# Altium schematic symbol library kmilo17pet-LT_PMIC_LT.SchLib: 2252 symbols (part 108 of 124)
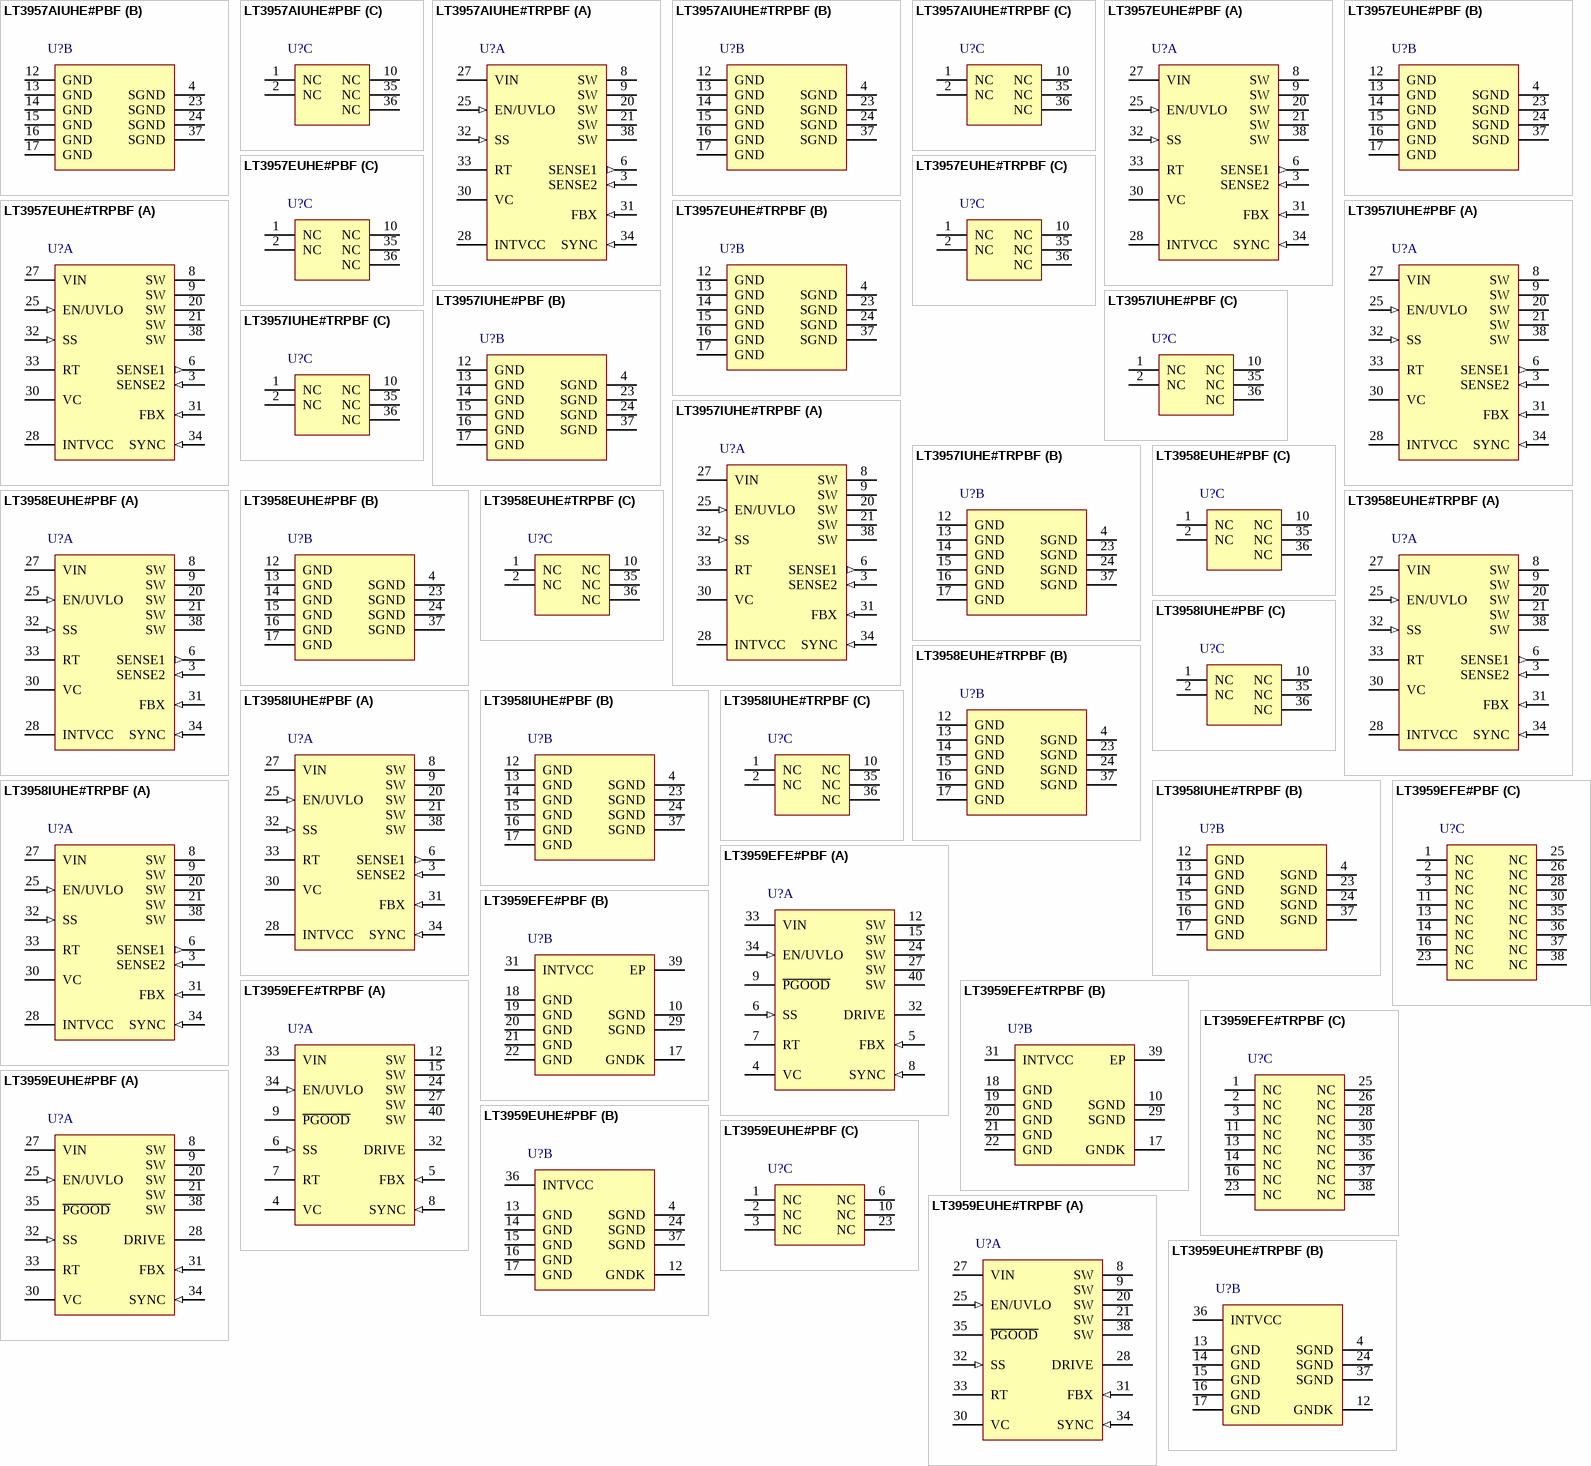
[diagram p178: symbols LT3957AIUHE#PBF to LT3959EUHE#TRPBF]

## LT3957IUHE#TRPBF
designator U?
Boost, Flyback, SEPIC and Inverting Converter with 5 A, 40 V Switch, 36-pin QFN (UHE-36-UHE28MA), -40 to 125 degC, Pb-Free, Tape and Reel; Manufacturer: Linear Technology; PartNumber: LT3957IUHE#TRPBF; Number of Outputs: 1; PackageReference: UHE-36; PackageDescription: 28-Pin Plastic QFN, Body 5 x 6 mm, Pitch 0.5 mm; Supplier 1: Digi-Key; Supplier Part Number 1: LT3957IUHE#TRPBF-ND; RoHS: TRUE
footprint LT-UHE-36-V-UHE28MA_V (QFN, 28-Leads, Body 6x5mm, Pitch 0.5mm)
part A pins: 3 SENSE2 (in) "The Current Sense Input for the Control Loop. Connect this pin to SENSE1 pin directly or through a low pass filter (connect this pin to SENSE1 pin through a resistor, and to SGND through a capacitor).", 6 SENSE1 (out) "The Current Sense Output of the Internal N-channel MOSFET. Connect this pin to SENSE2 pin directly or through a lowpass filter (connect this pin to SENSE1 pin through a resistor, then connect SENSE2 to SGND through a (See Datasheet)", 8 SW (power) "Drain of Internal Power N-channel MOSFET.", 9 SW (power) "Drain of Internal Power N-channel MOSFET.", 20 SW (power) "Drain of Internal Power N-channel MOSFET.", 21 SW (power) "Drain of Internal Power N-channel MOSFET.", 25 EN/UVLO (in) "Shutdown and Undervoltage Detect Pin. An accurate 1.22V (nominal) falling threshold with externally programmable hysteresis detects when power is okay to enable switching. Rising hysteresis is generated by the external (See Datasheet)", 27 VIN (power) "Input Supply Pin. The VIN pin can be locally bypassed with a capacitor to GND (not SGND).", 28 INTVCC (power), 30 VC "Error Amplifier Compensation Pin. Used to stabilize the voltage loop with an external RC network. Place compensation components between the VC pin and SGND.", 31 FBX (in) "Positive and Negative Feedback Pin. Receives the feedback voltage from the external resistor divider between the output and SGND. Also modulates the switching frequency during start-up and fault conditions when FBX is close (See Datasheet)", 32 SS (in) "Soft-Start Pin. This pin modulates compensation pin voltage (VC) clamp. The soft-start interval is set with an external capacitor between SS pin and SGND. The pin has a 10uA (typical) pull-up current source to an internal 2.(See Datasheet)", 33 RT "Switching Frequency Adjustment Pin. Set the frequency using a resistor to SGND. Do not leave this pin open.", 34 SYNC (in) "Frequency Synchronization Pin. Used to synchronize the switching frequency to an outside clock. If this feature is used, an RT resistor should be chosen to program a switching frequency 20% slower than the SYNC pulse (See Datasheet)", 38 SW (power) "Drain of Internal Power N-channel MOSFET."
part B pins: 4 SGND (power) "Signal Ground. All small-signal components should connect to this ground. SGND is connected to GND inside the IC to ensure Kelvin connection for the internal switch current sensing. Do not connect SGND and GND externally.", 12 GND (power) "Ground. These pins connect to the source terminal of internal power N-channel MOSFET through an internal sense resistor. GND is connected to SGND inside the IC to ensure Kelvin connection for the internal switch current (See Datasheet)", 13 GND (power) "Ground. These pins connect to the source terminal of internal power N-channel MOSFET through an internal sense resistor. GND is connected to SGND inside the IC to ensure Kelvin connection for the internal switch current (See Datasheet)", 14 GND (power) "Ground. These pins connect to the source terminal of internal power N-channel MOSFET through an internal sense resistor. GND is connected to SGND inside the IC to ensure Kelvin connection for the internal switch current (See Datasheet)", 15 GND (power) "Ground. These pins connect to the source terminal of internal power N-channel MOSFET through an internal sense resistor. GND is connected to SGND inside the IC to ensure Kelvin connection for the internal switch current (See Datasheet)", 16 GND (power) "Ground. These pins connect to the source terminal of internal power N-channel MOSFET through an internal sense resistor. GND is connected to SGND inside the IC to ensure Kelvin connection for the internal switch current (See Datasheet)", 17 GND (power) "Ground. These pins connect to the source terminal of internal power N-channel MOSFET through an internal sense resistor. GND is connected to SGND inside the IC to ensure Kelvin connection for the internal switch current (See Datasheet)", 23 SGND (power) "Signal Ground. All small-signal components should connect to this ground. SGND is connected to GND inside the IC to ensure Kelvin connection for the internal switch current sensing. Do not connect SGND and GND externally.", 24 SGND (power) "Signal Ground. All small-signal components should connect to this ground. SGND is connected to GND inside the IC to ensure Kelvin connection for the internal switch current sensing. Do not connect SGND and GND externally.", 37 SGND (power) "Signal Ground. All small-signal components should connect to this ground. SGND is connected to GND inside the IC to ensure Kelvin connection for the internal switch current sensing. Do not connect SGND and GND externally."
part C pins: 1 NC "No Internal Connection. Leave these pins open or connect them to the adjacent pins.", 2 NC "No Internal Connection. Leave these pins open or connect them to the adjacent pins.", 10 NC "No Internal Connection. Leave these pins open or connect them to the adjacent pins.", 35 NC "No Internal Connection. Leave these pins open or connect them to the adjacent pins.", 36 NC "No Internal Connection. Leave these pins open or connect them to the adjacent pins."

## LT3958EUHE#PBF
designator U?
High Input Voltage, Boost, Flyback, SEPIC and Inverting Converter, 36-pin QFN (UHE-36-UHE28MA), -40 to 125 degC, Pb-Free; Manufacturer: Linear Technology; PartNumber: LT3958EUHE#PBF; Number of Outputs: 1; PackageReference: UHE-36; PackageDescription: 28-Pin Plastic QFN, Body 5 x 6 mm, Pitch 0.5 mm; Supplier 1: Digi-Key; Supplier Part Number 1: LT3958EUHE#PBF-ND; RoHS: TRUE
footprint LT-UHE-36-V-UHE28MA_V (QFN, 28-Leads, Body 6x5mm, Pitch 0.5mm)
part A pins: 3 SENSE2 (in) "The Current Sense Input for the Control Loop. Connect this pin to SENSE1 pin directly or through a low pass filter (connect this pin to SENSE1 pin through a resistor, and to SGND through a capacitor).", 6 SENSE1 (out) "The Current Sense Output of the Internal N-channel MOSFET. Connect this pin to SENSE2 pin directly or through a lowpass filter (connect this pin to SENSE1 pin through a resistor, then connect SENSE2 to SGND through a (See Datasheet)", 8 SW (power) "Drain of Internal Power N-channel MOSFET.", 9 SW (power) "Drain of Internal Power N-channel MOSFET.", 20 SW (power) "Drain of Internal Power N-channel MOSFET.", 21 SW (power) "Drain of Internal Power N-channel MOSFET.", 25 EN/UVLO (in) "Shutdown and Undervoltage Detect Pin. An accurate 1.22V (nominal) falling threshold with externally programmable hysteresis detects when power is okay to enable switching. Rising hysteresis is generated by the external (See Datasheet)", 27 VIN (power) "Input Supply Pin. The VIN pin can be locally bypassed with a capacitor to GND (not SGND).", 28 INTVCC (power), 30 VC "Error Amplifier Compensation Pin. Used to stabilize the voltage loop with an external RC network. Place compensation components between the VC pin and SGND.", 31 FBX (in) "Positive and Negative Feedback Pin. Receives the feedback voltage from the external resistor divider between the output and SGND. Also modulates the switching frequency during start-up and fault conditions when FBX is close (See Datasheet)", 32 SS (in) "Soft-Start Pin. This pin modulates compensation pin voltage (VC) clamp. The soft-start interval is set with an external capacitor between SS pin and SGND. The pin has a 10uA (typical) pull-up current source to an internal 2.(See Datasheet)", 33 RT "Switching Frequency Adjustment Pin. Set the frequency using a resistor to SGND. Do not leave this pin open.", 34 SYNC (in) "Frequency Synchronization Pin. Used to synchronize the switching frequency to an outside clock. If this feature is used, an RT resistor should be chosen to program a switching frequency 20% slower than the SYNC pulse (See Datasheet)", 38 SW (power) "Drain of Internal Power N-channel MOSFET."
part B pins: 4 SGND (power) "Signal Ground. All small-signal components should connect to this ground. SGND is connected to GND inside the IC to ensure Kelvin connection for the internal switch current sensing. Do not connect SGND and GND externally.", 12 GND (power) "Ground. These pins connect to the source terminal of internal power N-channel MOSFET through an internal sense resistor. GND is connected to SGND inside the IC to ensure Kelvin connection for the internal switch current (See Datasheet)", 13 GND (power) "Ground. These pins connect to the source terminal of internal power N-channel MOSFET through an internal sense resistor. GND is connected to SGND inside the IC to ensure Kelvin connection for the internal switch current (See Datasheet)", 14 GND (power) "Ground. These pins connect to the source terminal of internal power N-channel MOSFET through an internal sense resistor. GND is connected to SGND inside the IC to ensure Kelvin connection for the internal switch current (See Datasheet)", 15 GND (power) "Ground. These pins connect to the source terminal of internal power N-channel MOSFET through an internal sense resistor. GND is connected to SGND inside the IC to ensure Kelvin connection for the internal switch current (See Datasheet)", 16 GND (power) "Ground. These pins connect to the source terminal of internal power N-channel MOSFET through an internal sense resistor. GND is connected to SGND inside the IC to ensure Kelvin connection for the internal switch current (See Datasheet)", 17 GND (power) "Ground. These pins connect to the source terminal of internal power N-channel MOSFET through an internal sense resistor. GND is connected to SGND inside the IC to ensure Kelvin connection for the internal switch current (See Datasheet)", 23 SGND (power) "Signal Ground. All small-signal components should connect to this ground. SGND is connected to GND inside the IC to ensure Kelvin connection for the internal switch current sensing. Do not connect SGND and GND externally.", 24 SGND (power) "Signal Ground. All small-signal components should connect to this ground. SGND is connected to GND inside the IC to ensure Kelvin connection for the internal switch current sensing. Do not connect SGND and GND externally.", 37 SGND (power) "Signal Ground. All small-signal components should connect to this ground. SGND is connected to GND inside the IC to ensure Kelvin connection for the internal switch current sensing. Do not connect SGND and GND externally."
part C pins: 1 NC "No Internal Connection. Leave these pins open or connect them to the adjacent pins.", 2 NC "No Internal Connection. Leave these pins open or connect them to the adjacent pins.", 10 NC "No Internal Connection. Leave these pins open or connect them to the adjacent pins.", 35 NC "No Internal Connection. Leave these pins open or connect them to the adjacent pins.", 36 NC "No Internal Connection. Leave these pins open or connect them to the adjacent pins."

## LT3958EUHE#TRPBF
designator U?
High Input Voltage, Boost, Flyback, SEPIC and Inverting Converter, 36-pin QFN (UHE-36-UHE28MA), -40 to 125 degC, Pb-Free, Tape and Reel; Manufacturer: Linear Technology; PartNumber: LT3958EUHE#TRPBF; Number of Outputs: 1; PackageReference: UHE-36; PackageDescription: 28-Pin Plastic QFN, Body 5 x 6 mm, Pitch 0.5 mm; Supplier 1: Digi-Key; Supplier Part Number 1: LT3958EUHE#TRPBF-ND; RoHS: TRUE
footprint LT-UHE-36-V-UHE28MA_V (QFN, 28-Leads, Body 6x5mm, Pitch 0.5mm)
part A pins: 3 SENSE2 (in) "The Current Sense Input for the Control Loop. Connect this pin to SENSE1 pin directly or through a low pass filter (connect this pin to SENSE1 pin through a resistor, and to SGND through a capacitor).", 6 SENSE1 (out) "The Current Sense Output of the Internal N-channel MOSFET. Connect this pin to SENSE2 pin directly or through a lowpass filter (connect this pin to SENSE1 pin through a resistor, then connect SENSE2 to SGND through a (See Datasheet)", 8 SW (power) "Drain of Internal Power N-channel MOSFET.", 9 SW (power) "Drain of Internal Power N-channel MOSFET.", 20 SW (power) "Drain of Internal Power N-channel MOSFET.", 21 SW (power) "Drain of Internal Power N-channel MOSFET.", 25 EN/UVLO (in) "Shutdown and Undervoltage Detect Pin. An accurate 1.22V (nominal) falling threshold with externally programmable hysteresis detects when power is okay to enable switching. Rising hysteresis is generated by the external (See Datasheet)", 27 VIN (power) "Input Supply Pin. The VIN pin can be locally bypassed with a capacitor to GND (not SGND).", 28 INTVCC (power), 30 VC "Error Amplifier Compensation Pin. Used to stabilize the voltage loop with an external RC network. Place compensation components between the VC pin and SGND.", 31 FBX (in) "Positive and Negative Feedback Pin. Receives the feedback voltage from the external resistor divider between the output and SGND. Also modulates the switching frequency during start-up and fault conditions when FBX is close (See Datasheet)", 32 SS (in) "Soft-Start Pin. This pin modulates compensation pin voltage (VC) clamp. The soft-start interval is set with an external capacitor between SS pin and SGND. The pin has a 10uA (typical) pull-up current source to an internal 2.(See Datasheet)", 33 RT "Switching Frequency Adjustment Pin. Set the frequency using a resistor to SGND. Do not leave this pin open.", 34 SYNC (in) "Frequency Synchronization Pin. Used to synchronize the switching frequency to an outside clock. If this feature is used, an RT resistor should be chosen to program a switching frequency 20% slower than the SYNC pulse (See Datasheet)", 38 SW (power) "Drain of Internal Power N-channel MOSFET."
part B pins: 4 SGND (power) "Signal Ground. All small-signal components should connect to this ground. SGND is connected to GND inside the IC to ensure Kelvin connection for the internal switch current sensing. Do not connect SGND and GND externally.", 12 GND (power) "Ground. These pins connect to the source terminal of internal power N-channel MOSFET through an internal sense resistor. GND is connected to SGND inside the IC to ensure Kelvin connection for the internal switch current (See Datasheet)", 13 GND (power) "Ground. These pins connect to the source terminal of internal power N-channel MOSFET through an internal sense resistor. GND is connected to SGND inside the IC to ensure Kelvin connection for the internal switch current (See Datasheet)", 14 GND (power) "Ground. These pins connect to the source terminal of internal power N-channel MOSFET through an internal sense resistor. GND is connected to SGND inside the IC to ensure Kelvin connection for the internal switch current (See Datasheet)", 15 GND (power) "Ground. These pins connect to the source terminal of internal power N-channel MOSFET through an internal sense resistor. GND is connected to SGND inside the IC to ensure Kelvin connection for the internal switch current (See Datasheet)", 16 GND (power) "Ground. These pins connect to the source terminal of internal power N-channel MOSFET through an internal sense resistor. GND is connected to SGND inside the IC to ensure Kelvin connection for the internal switch current (See Datasheet)", 17 GND (power) "Ground. These pins connect to the source terminal of internal power N-channel MOSFET through an internal sense resistor. GND is connected to SGND inside the IC to ensure Kelvin connection for the internal switch current (See Datasheet)", 23 SGND (power) "Signal Ground. All small-signal components should connect to this ground. SGND is connected to GND inside the IC to ensure Kelvin connection for the internal switch current sensing. Do not connect SGND and GND externally.", 24 SGND (power) "Signal Ground. All small-signal components should connect to this ground. SGND is connected to GND inside the IC to ensure Kelvin connection for the internal switch current sensing. Do not connect SGND and GND externally.", 37 SGND (power) "Signal Ground. All small-signal components should connect to this ground. SGND is connected to GND inside the IC to ensure Kelvin connection for the internal switch current sensing. Do not connect SGND and GND externally."
part C pins: 1 NC "No Internal Connection. Leave these pins open or connect them to the adjacent pins.", 2 NC "No Internal Connection. Leave these pins open or connect them to the adjacent pins.", 10 NC "No Internal Connection. Leave these pins open or connect them to the adjacent pins.", 35 NC "No Internal Connection. Leave these pins open or connect them to the adjacent pins.", 36 NC "No Internal Connection. Leave these pins open or connect them to the adjacent pins."

## LT3958IUHE#PBF
designator U?
High Input Voltage, Boost, Flyback, SEPIC and Inverting Converter, 36-pin QFN (UHE-36-UHE28MA), -40 to 125 degC, Pb-Free; Manufacturer: Linear Technology; PartNumber: LT3958IUHE#PBF; Number of Outputs: 1; PackageReference: UHE-36; PackageDescription: 28-Pin Plastic QFN, Body 5 x 6 mm, Pitch 0.5 mm; Supplier 1: Digi-Key; Supplier Part Number 1: LT3958IUHE#PBF-ND; RoHS: TRUE
footprint LT-UHE-36-V-UHE28MA_V (QFN, 28-Leads, Body 6x5mm, Pitch 0.5mm)
part A pins: 3 SENSE2 (in) "The Current Sense Input for the Control Loop. Connect this pin to SENSE1 pin directly or through a low pass filter (connect this pin to SENSE1 pin through a resistor, and to SGND through a capacitor).", 6 SENSE1 (out) "The Current Sense Output of the Internal N-channel MOSFET. Connect this pin to SENSE2 pin directly or through a lowpass filter (connect this pin to SENSE1 pin through a resistor, then connect SENSE2 to SGND through a (See Datasheet)", 8 SW (power) "Drain of Internal Power N-channel MOSFET.", 9 SW (power) "Drain of Internal Power N-channel MOSFET.", 20 SW (power) "Drain of Internal Power N-channel MOSFET.", 21 SW (power) "Drain of Internal Power N-channel MOSFET.", 25 EN/UVLO (in) "Shutdown and Undervoltage Detect Pin. An accurate 1.22V (nominal) falling threshold with externally programmable hysteresis detects when power is okay to enable switching. Rising hysteresis is generated by the external (See Datasheet)", 27 VIN (power) "Input Supply Pin. The VIN pin can be locally bypassed with a capacitor to GND (not SGND).", 28 INTVCC (power), 30 VC "Error Amplifier Compensation Pin. Used to stabilize the voltage loop with an external RC network. Place compensation components between the VC pin and SGND.", 31 FBX (in) "Positive and Negative Feedback Pin. Receives the feedback voltage from the external resistor divider between the output and SGND. Also modulates the switching frequency during start-up and fault conditions when FBX is close (See Datasheet)", 32 SS (in) "Soft-Start Pin. This pin modulates compensation pin voltage (VC) clamp. The soft-start interval is set with an external capacitor between SS pin and SGND. The pin has a 10uA (typical) pull-up current source to an internal 2.(See Datasheet)", 33 RT "Switching Frequency Adjustment Pin. Set the frequency using a resistor to SGND. Do not leave this pin open.", 34 SYNC (in) "Frequency Synchronization Pin. Used to synchronize the switching frequency to an outside clock. If this feature is used, an RT resistor should be chosen to program a switching frequency 20% slower than the SYNC pulse (See Datasheet)", 38 SW (power) "Drain of Internal Power N-channel MOSFET."
part B pins: 4 SGND (power) "Signal Ground. All small-signal components should connect to this ground. SGND is connected to GND inside the IC to ensure Kelvin connection for the internal switch current sensing. Do not connect SGND and GND externally.", 12 GND (power) "Ground. These pins connect to the source terminal of internal power N-channel MOSFET through an internal sense resistor. GND is connected to SGND inside the IC to ensure Kelvin connection for the internal switch current (See Datasheet)", 13 GND (power) "Ground. These pins connect to the source terminal of internal power N-channel MOSFET through an internal sense resistor. GND is connected to SGND inside the IC to ensure Kelvin connection for the internal switch current (See Datasheet)", 14 GND (power) "Ground. These pins connect to the source terminal of internal power N-channel MOSFET through an internal sense resistor. GND is connected to SGND inside the IC to ensure Kelvin connection for the internal switch current (See Datasheet)", 15 GND (power) "Ground. These pins connect to the source terminal of internal power N-channel MOSFET through an internal sense resistor. GND is connected to SGND inside the IC to ensure Kelvin connection for the internal switch current (See Datasheet)", 16 GND (power) "Ground. These pins connect to the source terminal of internal power N-channel MOSFET through an internal sense resistor. GND is connected to SGND inside the IC to ensure Kelvin connection for the internal switch current (See Datasheet)", 17 GND (power) "Ground. These pins connect to the source terminal of internal power N-channel MOSFET through an internal sense resistor. GND is connected to SGND inside the IC to ensure Kelvin connection for the internal switch current (See Datasheet)", 23 SGND (power) "Signal Ground. All small-signal components should connect to this ground. SGND is connected to GND inside the IC to ensure Kelvin connection for the internal switch current sensing. Do not connect SGND and GND externally.", 24 SGND (power) "Signal Ground. All small-signal components should connect to this ground. SGND is connected to GND inside the IC to ensure Kelvin connection for the internal switch current sensing. Do not connect SGND and GND externally.", 37 SGND (power) "Signal Ground. All small-signal components should connect to this ground. SGND is connected to GND inside the IC to ensure Kelvin connection for the internal switch current sensing. Do not connect SGND and GND externally."
part C pins: 1 NC "No Internal Connection. Leave these pins open or connect them to the adjacent pins.", 2 NC "No Internal Connection. Leave these pins open or connect them to the adjacent pins.", 10 NC "No Internal Connection. Leave these pins open or connect them to the adjacent pins.", 35 NC "No Internal Connection. Leave these pins open or connect them to the adjacent pins.", 36 NC "No Internal Connection. Leave these pins open or connect them to the adjacent pins."

## LT3958IUHE#TRPBF
designator U?
High Input Voltage, Boost, Flyback, SEPIC and Inverting Converter, 36-pin QFN (UHE-36-UHE28MA), -40 to 125 degC, Pb-Free, Tape and Reel; Manufacturer: Linear Technology; PartNumber: LT3958IUHE#TRPBF; Number of Outputs: 1; PackageReference: UHE-36; PackageDescription: 28-Pin Plastic QFN, Body 5 x 6 mm, Pitch 0.5 mm; Supplier 1: Digi-Key; Supplier Part Number 1: LT3958IUHE#TRPBF-ND; RoHS: TRUE
footprint LT-UHE-36-V-UHE28MA_V (QFN, 28-Leads, Body 6x5mm, Pitch 0.5mm)
part A pins: 3 SENSE2 (in) "The Current Sense Input for the Control Loop. Connect this pin to SENSE1 pin directly or through a low pass filter (connect this pin to SENSE1 pin through a resistor, and to SGND through a capacitor).", 6 SENSE1 (out) "The Current Sense Output of the Internal N-channel MOSFET. Connect this pin to SENSE2 pin directly or through a lowpass filter (connect this pin to SENSE1 pin through a resistor, then connect SENSE2 to SGND through a (See Datasheet)", 8 SW (power) "Drain of Internal Power N-channel MOSFET.", 9 SW (power) "Drain of Internal Power N-channel MOSFET.", 20 SW (power) "Drain of Internal Power N-channel MOSFET.", 21 SW (power) "Drain of Internal Power N-channel MOSFET.", 25 EN/UVLO (in) "Shutdown and Undervoltage Detect Pin. An accurate 1.22V (nominal) falling threshold with externally programmable hysteresis detects when power is okay to enable switching. Rising hysteresis is generated by the external (See Datasheet)", 27 VIN (power) "Input Supply Pin. The VIN pin can be locally bypassed with a capacitor to GND (not SGND).", 28 INTVCC (power), 30 VC "Error Amplifier Compensation Pin. Used to stabilize the voltage loop with an external RC network. Place compensation components between the VC pin and SGND.", 31 FBX (in) "Positive and Negative Feedback Pin. Receives the feedback voltage from the external resistor divider between the output and SGND. Also modulates the switching frequency during start-up and fault conditions when FBX is close (See Datasheet)", 32 SS (in) "Soft-Start Pin. This pin modulates compensation pin voltage (VC) clamp. The soft-start interval is set with an external capacitor between SS pin and SGND. The pin has a 10uA (typical) pull-up current source to an internal 2.(See Datasheet)", 33 RT "Switching Frequency Adjustment Pin. Set the frequency using a resistor to SGND. Do not leave this pin open.", 34 SYNC (in) "Frequency Synchronization Pin. Used to synchronize the switching frequency to an outside clock. If this feature is used, an RT resistor should be chosen to program a switching frequency 20% slower than the SYNC pulse (See Datasheet)", 38 SW (power) "Drain of Internal Power N-channel MOSFET."
part B pins: 4 SGND (power) "Signal Ground. All small-signal components should connect to this ground. SGND is connected to GND inside the IC to ensure Kelvin connection for the internal switch current sensing. Do not connect SGND and GND externally.", 12 GND (power) "Ground. These pins connect to the source terminal of internal power N-channel MOSFET through an internal sense resistor. GND is connected to SGND inside the IC to ensure Kelvin connection for the internal switch current (See Datasheet)", 13 GND (power) "Ground. These pins connect to the source terminal of internal power N-channel MOSFET through an internal sense resistor. GND is connected to SGND inside the IC to ensure Kelvin connection for the internal switch current (See Datasheet)", 14 GND (power) "Ground. These pins connect to the source terminal of internal power N-channel MOSFET through an internal sense resistor. GND is connected to SGND inside the IC to ensure Kelvin connection for the internal switch current (See Datasheet)", 15 GND (power) "Ground. These pins connect to the source terminal of internal power N-channel MOSFET through an internal sense resistor. GND is connected to SGND inside the IC to ensure Kelvin connection for the internal switch current (See Datasheet)", 16 GND (power) "Ground. These pins connect to the source terminal of internal power N-channel MOSFET through an internal sense resistor. GND is connected to SGND inside the IC to ensure Kelvin connection for the internal switch current (See Datasheet)", 17 GND (power) "Ground. These pins connect to the source terminal of internal power N-channel MOSFET through an internal sense resistor. GND is connected to SGND inside the IC to ensure Kelvin connection for the internal switch current (See Datasheet)", 23 SGND (power) "Signal Ground. All small-signal components should connect to this ground. SGND is connected to GND inside the IC to ensure Kelvin connection for the internal switch current sensing. Do not connect SGND and GND externally.", 24 SGND (power) "Signal Ground. All small-signal components should connect to this ground. SGND is connected to GND inside the IC to ensure Kelvin connection for the internal switch current sensing. Do not connect SGND and GND externally.", 37 SGND (power) "Signal Ground. All small-signal components should connect to this ground. SGND is connected to GND inside the IC to ensure Kelvin connection for the internal switch current sensing. Do not connect SGND and GND externally."
part C pins: 1 NC "No Internal Connection. Leave these pins open or connect them to the adjacent pins.", 2 NC "No Internal Connection. Leave these pins open or connect them to the adjacent pins.", 10 NC "No Internal Connection. Leave these pins open or connect them to the adjacent pins.", 35 NC "No Internal Connection. Leave these pins open or connect them to the adjacent pins.", 36 NC "No Internal Connection. Leave these pins open or connect them to the adjacent pins."

## LT3959EFE#PBF
designator U?
Wide Input Voltage Range Boost / SEPIC / Inverting Converter with 6 A, 40 V Switch, 38-pin SOP (FE-38-SEPV-AC), -40 to 125 degC, Pb-Free; Manufacturer: Linear Technology; PartNumber: LT3959EFE#PBF; Number of Outputs: 1; PackageReference: FE-38; PackageDescription: 38-Pin Plastic TSSOP, Body 9.7 x 4.4 mm, Pitch 0.5 mm; Supplier 1: Digi-Key; Supplier Part Number 1: LT3959EFE#PBF-ND; RoHS: TRUE
footprint LT-FE-38-SEPV-AC_N (SOP, 38-Leads, Body 9.8x4.5mm, Pitch 0.5mm, IPC Medium Density)
footprint LT-FE-38-SEPV-AC_L (SOP, 38-Leads, Body 9.8x4.5mm, Pitch 0.5mm, IPC High Density)
footprint LT-FE-38-SEPV-AC_M (SOP, 38-Leads, Body 9.8x4.5mm, Pitch 0.5mm, IPC Low Density)
part A pins: 4 VC "Error Amplifier Compensation Pin. Used to stabilize the voltage loop with an external RC network. Place compensation components between the VC pin and SGND.", 5 FBX (in) "Voltage Regulation Feedback Pin for Positive or Negative Outputs. Connect this pin to a resistor divider between the output and SGND. FBX is the input of two error amplifiers-one configured to regulate a positive output; the (See Datasheet)", 6 SS (in) "Soft-Start Pin. This pin modulates compensation pin voltage (VC) clamp. The soft-start interval is set with an external capacitor. The pin has a 10uA (typical) pull-up current source to an internal 2.5V rail. The soft-start (See Datasheet)", 7 RT "Switching Frequency Adjustment Pin. Set the frequency using a resistor to SGND. Do not leave the RT pin open.", 8 SYNC (in) "Frequency Synchronization Pin. Used to synchronize the internal oscillator to an outside clock. If this feature is used, an RT resistor should be chosen to program a switching frequency 20% slower than SYNC pulse frequency. (See Datasheet)", 9 ~{PGOOD} (oc) "Output Ready Status Pin. An open-collector pull down on P\G\O\O\D\ asserts when INTVCC is greater than 2.7V and the FBX voltage is within 5% (80mV if VFBX = 1.6V or 40mV if VFBX = -0.8V) of the regulation voltage.", 12 SW (power) "Drain of Internal Power N-Channel MOSFET.", 15 SW (power) "Drain of Internal Power N-Channel MOSFET.", 24 SW (power) "Drain of Internal Power N-Channel MOSFET.", 27 SW (power) "Drain of Internal Power N-Channel MOSFET.", 32 DRIVE (power) "DRIVE LDO Supply Pin. This pin can be connected to either VIN or a quasi-regulated voltage supply such as a DC converter output. This pin must be bypassed to GND with a minimum of 1uF capacitor placed close to the pin. Tie (See Datasheet)", 33 VIN (power) "Supply Pin for Internal Leads and the VIN LDO Regulator of INTVCC. Must be locally bypassed to GND with a minimum of 1uF capacitor placed close to this pin.", 34 EN/UVLO (in) "Shutdown and Undervoltage Detect Pin. An accurate 1.22V (nominal) falling threshold with externally programmable hysteresis detects when power is okay to enable switching. Rising hysteresis is generated by the external (See Datasheet)", 40 SW (power) "Drain of Internal Power N-Channel MOSFET."
part B pins: 10 SGND (power) "Signal Ground. Must be soldered directly to the signal ground plane. Connect to ground terminal of: external resistor dividers for FBX and EN/UVLO; capacitors for INTVCC, SS, and VC; and resistor RT.", 17 GNDK (power) "Kelvin Connection Pin between GND and SGND. Kelvin connect this pin to the SGND plane close to the IC. See the Board Layout section.", 18 GND (power) "Source Terminal of Switch and the GND Input to the Switch Current Comparator.", 19 GND (power) "Source Terminal of Switch and the GND Input to the Switch Current Comparator.", 20 GND (power) "Source Terminal of Switch and the GND Input to the Switch Current Comparator.", 21 GND (power) "Source Terminal of Switch and the GND Input to the Switch Current Comparator.", 22 GND (power) "Source Terminal of Switch and the GND Input to the Switch Current Comparator.", 29 SGND (power) "Signal Ground. Must be soldered directly to the signal ground plane. Connect to ground terminal of: external resistor dividers for FBX and EN/UVLO; capacitors for INTVCC, SS, and VC; and resistor RT.", 31 INTVCC (power) "Regulated Supply for Internal Loads and Gate Driver. Regulated to 4.75V if powered from DRIVE or regulated to 3.75V if powered from VIN. The INTVCC pin must be bypassed to SGND with a minimum of 4.7uF capacitor placed close (See Datasheet)", 39 EP (power) "Signal Ground. Must be soldered directly to the signal ground plane. Connect to ground terminal of: external resistor dividers for FBX and EN/UVLO; capacitors for INTVCC, SS, and VC; and resistor RT."
part C pins: 1 NC "No Internal Connection. Leave these pins open or connect them to the adjacent pins.", 2 NC "No Internal Connection. Leave these pins open or connect them to the adjacent pins.", 3 NC "No Internal Connection. Leave these pins open or connect them to the adjacent pins.", 11 NC "No Internal Connection. Leave these pins open or connect them to the adjacent pins.", 13 NC "No Internal Connection. Leave these pins open or connect them to the adjacent pins.", 14 NC "No Internal Connection. Leave these pins open or connect them to the adjacent pins.", 16 NC "No Internal Connection. Leave these pins open or connect them to the adjacent pins.", 23 NC "No Internal Connection. Leave these pins open or connect them to the adjacent pins.", 25 NC "No Internal Connection. Leave these pins open or connect them to the adjacent pins.", 26 NC "No Internal Connection. Leave these pins open or connect them to the adjacent pins.", 28 NC "No Internal Connection. Leave these pins open or connect them to the adjacent pins.", 30 NC "No Internal Connection. Leave these pins open or connect them to the adjacent pins.", 35 NC "No Internal Connection. Leave these pins open or connect them to the adjacent pins.", 36 NC "No Internal Connection. Leave these pins open or connect them to the adjacent pins.", 37 NC "No Internal Connection. Leave these pins open or connect them to the adjacent pins.", 38 NC "No Internal Connection. Leave these pins open or connect them to the adjacent pins."

## LT3959EFE#TRPBF
designator U?
Wide Input Voltage Range Boost / SEPIC / Inverting Converter with 6 A, 40 V Switch, 38-pin SOP (FE-38-SEPV-AC), -40 to 125 degC, Pb-Free, Tape and Reel; Manufacturer: Linear Technology; PartNumber: LT3959EFE#TRPBF; Number of Outputs: 1; PackageReference: FE-38; PackageDescription: 38-Pin Plastic TSSOP, Body 9.7 x 4.4 mm, Pitch 0.5 mm; Supplier 1: Digi-Key; Supplier Part Number 1: LT3959EFE#TRPBF-ND; RoHS: TRUE
footprint LT-FE-38-SEPV-AC_N (SOP, 38-Leads, Body 9.8x4.5mm, Pitch 0.5mm, IPC Medium Density)
footprint LT-FE-38-SEPV-AC_L (SOP, 38-Leads, Body 9.8x4.5mm, Pitch 0.5mm, IPC High Density)
footprint LT-FE-38-SEPV-AC_M (SOP, 38-Leads, Body 9.8x4.5mm, Pitch 0.5mm, IPC Low Density)
part A pins: 4 VC "Error Amplifier Compensation Pin. Used to stabilize the voltage loop with an external RC network. Place compensation components between the VC pin and SGND.", 5 FBX (in) "Voltage Regulation Feedback Pin for Positive or Negative Outputs. Connect this pin to a resistor divider between the output and SGND. FBX is the input of two error amplifiers-one configured to regulate a positive output; the (See Datasheet)", 6 SS (in) "Soft-Start Pin. This pin modulates compensation pin voltage (VC) clamp. The soft-start interval is set with an external capacitor. The pin has a 10uA (typical) pull-up current source to an internal 2.5V rail. The soft-start (See Datasheet)", 7 RT "Switching Frequency Adjustment Pin. Set the frequency using a resistor to SGND. Do not leave the RT pin open.", 8 SYNC (in) "Frequency Synchronization Pin. Used to synchronize the internal oscillator to an outside clock. If this feature is used, an RT resistor should be chosen to program a switching frequency 20% slower than SYNC pulse frequency. (See Datasheet)", 9 ~{PGOOD} (oc) "Output Ready Status Pin. An open-collector pull down on P\G\O\O\D\ asserts when INTVCC is greater than 2.7V and the FBX voltage is within 5% (80mV if VFBX = 1.6V or 40mV if VFBX = -0.8V) of the regulation voltage.", 12 SW (power) "Drain of Internal Power N-Channel MOSFET.", 15 SW (power) "Drain of Internal Power N-Channel MOSFET.", 24 SW (power) "Drain of Internal Power N-Channel MOSFET.", 27 SW (power) "Drain of Internal Power N-Channel MOSFET.", 32 DRIVE (power) "DRIVE LDO Supply Pin. This pin can be connected to either VIN or a quasi-regulated voltage supply such as a DC converter output. This pin must be bypassed to GND with a minimum of 1uF capacitor placed close to the pin. Tie (See Datasheet)", 33 VIN (power) "Supply Pin for Internal Leads and the VIN LDO Regulator of INTVCC. Must be locally bypassed to GND with a minimum of 1uF capacitor placed close to this pin.", 34 EN/UVLO (in) "Shutdown and Undervoltage Detect Pin. An accurate 1.22V (nominal) falling threshold with externally programmable hysteresis detects when power is okay to enable switching. Rising hysteresis is generated by the external (See Datasheet)", 40 SW (power) "Drain of Internal Power N-Channel MOSFET."
part B pins: 10 SGND (power) "Signal Ground. Must be soldered directly to the signal ground plane. Connect to ground terminal of: external resistor dividers for FBX and EN/UVLO; capacitors for INTVCC, SS, and VC; and resistor RT.", 17 GNDK (power) "Kelvin Connection Pin between GND and SGND. Kelvin connect this pin to the SGND plane close to the IC. See the Board Layout section.", 18 GND (power) "Source Terminal of Switch and the GND Input to the Switch Current Comparator.", 19 GND (power) "Source Terminal of Switch and the GND Input to the Switch Current Comparator.", 20 GND (power) "Source Terminal of Switch and the GND Input to the Switch Current Comparator.", 21 GND (power) "Source Terminal of Switch and the GND Input to the Switch Current Comparator.", 22 GND (power) "Source Terminal of Switch and the GND Input to the Switch Current Comparator.", 29 SGND (power) "Signal Ground. Must be soldered directly to the signal ground plane. Connect to ground terminal of: external resistor dividers for FBX and EN/UVLO; capacitors for INTVCC, SS, and VC; and resistor RT.", 31 INTVCC (power) "Regulated Supply for Internal Loads and Gate Driver. Regulated to 4.75V if powered from DRIVE or regulated to 3.75V if powered from VIN. The INTVCC pin must be bypassed to SGND with a minimum of 4.7uF capacitor placed close (See Datasheet)", 39 EP (power) "Signal Ground. Must be soldered directly to the signal ground plane. Connect to ground terminal of: external resistor dividers for FBX and EN/UVLO; capacitors for INTVCC, SS, and VC; and resistor RT."
part C pins: 1 NC "No Internal Connection. Leave these pins open or connect them to the adjacent pins.", 2 NC "No Internal Connection. Leave these pins open or connect them to the adjacent pins.", 3 NC "No Internal Connection. Leave these pins open or connect them to the adjacent pins.", 11 NC "No Internal Connection. Leave these pins open or connect them to the adjacent pins.", 13 NC "No Internal Connection. Leave these pins open or connect them to the adjacent pins.", 14 NC "No Internal Connection. Leave these pins open or connect them to the adjacent pins.", 16 NC "No Internal Connection. Leave these pins open or connect them to the adjacent pins.", 23 NC "No Internal Connection. Leave these pins open or connect them to the adjacent pins.", 25 NC "No Internal Connection. Leave these pins open or connect them to the adjacent pins.", 26 NC "No Internal Connection. Leave these pins open or connect them to the adjacent pins.", 28 NC "No Internal Connection. Leave these pins open or connect them to the adjacent pins.", 30 NC "No Internal Connection. Leave these pins open or connect them to the adjacent pins.", 35 NC "No Internal Connection. Leave these pins open or connect them to the adjacent pins.", 36 NC "No Internal Connection. Leave these pins open or connect them to the adjacent pins.", 37 NC "No Internal Connection. Leave these pins open or connect them to the adjacent pins.", 38 NC "No Internal Connection. Leave these pins open or connect them to the adjacent pins."

## LT3959EUHE#PBF
designator U?
Wide Input Voltage Range Boost / SEPIC / Inverting Converter with 6 A, 40 V Switch, 36-pin QFN (UHE-36-UHE28MA), -40 to 125 degC, Pb-Free; Manufacturer: Linear Technology; PartNumber: LT3959EUHE#PBF; Number of Outputs: 1; PackageReference: UHE-36; PackageDescription: 28-Pin Plastic QFN, Body 5 x 6 mm, Pitch 0.5 mm; Supplier 1: Digi-Key; Supplier Part Number 1: LT3959EUHE#PBF-ND; RoHS: TRUE
footprint LT-UHE-36-V-UHE28MA_V (QFN, 28-Leads, Body 6x5mm, Pitch 0.5mm)
part A pins: 8 SW (power) "Drain of Internal Power N-Channel MOSFET.", 9 SW (power) "Drain of Internal Power N-Channel MOSFET.", 20 SW (power) "Drain of Internal Power N-Channel MOSFET.", 21 SW (power) "Drain of Internal Power N-Channel MOSFET.", 25 EN/UVLO (in) "Shutdown and Undervoltage Detect Pin. An accurate 1.22V (nominal) falling threshold with externally programmable hysteresis detects when power is okay to enable switching. Rising hysteresis is generated by the external (See Datasheet)", 27 VIN (power) "Supply Pin for Internal Leads and the VIN LDO Regulator of INTVCC. Must be locally bypassed to GND with a minimum of 1uF capacitor placed close to this pin.", 28 DRIVE (power) "DRIVE LDO Supply Pin. This pin can be connected to either VIN or a quasi-regulated voltage supply such as a DC converter output. This pin must be bypassed to GND with a minimum of 1uF capacitor placed close to the pin. Tie (See Datasheet)", 30 VC "Error Amplifier Compensation Pin. Used to stabilize the voltage loop with an external RC network. Place compensation components between the VC pin and SGND.", 31 FBX (in) "Voltage Regulation Feedback Pin for Positive or Negative Outputs. Connect this pin to a resistor divider between the output and SGND. FBX is the input of two error amplifiers-one configured to regulate a positive output; the (See Datasheet)", 32 SS (in) "Soft-Start Pin. This pin modulates compensation pin voltage (VC) clamp. The soft-start interval is set with an external capacitor. The pin has a 10uA (typical) pull-up current source to an internal 2.5V rail. The soft-start (See Datasheet)", 33 RT "Switching Frequency Adjustment Pin. Set the frequency using a resistor to SGND. Do not leave the RT pin open.", 34 SYNC (in) "Frequency Synchronization Pin. Used to synchronize the internal oscillator to an outside clock. If this feature is used, an RT resistor should be chosen to program a switching frequency 20% slower than SYNC pulse frequency. (See Datasheet)", 35 ~{PGOOD} (oc) "Output Ready Status Pin. An open-collector pull down on P\G\O\O\D\ asserts when INTVCC is greater than 2.7V and the FBX voltage is within 5% (80mV if VFBX = 1.6V or 40mV if VFBX = -0.8V) of the regulation voltage.", 38 SW (power) "Drain of Internal Power N-Channel MOSFET."
part B pins: 4 SGND (power) "Signal Ground. Must be soldered directly to the signal ground plane. Connect to ground terminal of: external resistor dividers for FBX and EN/UVLO; capacitors for INTVCC, SS, and VC; and resistor RT.", 12 GNDK (power) "Kelvin Connection Pin between GND and SGND. Kelvin connect this pin to the SGND plane close to the IC. See the Board Layout section.", 13 GND (power) "Source Terminal of Switch and the GND Input to the Switch Current Comparator.", 14 GND (power) "Source Terminal of Switch and the GND Input to the Switch Current Comparator.", 15 GND (power) "Source Terminal of Switch and the GND Input to the Switch Current Comparator.", 16 GND (power) "Source Terminal of Switch and the GND Input to the Switch Current Comparator.", 17 GND (power) "Source Terminal of Switch and the GND Input to the Switch Current Comparator.", 24 SGND (power) "Signal Ground. Must be soldered directly to the signal ground plane. Connect to ground terminal of: external resistor dividers for FBX and EN/UVLO; capacitors for INTVCC, SS, and VC; and resistor RT.", 36 INTVCC (power) "Regulated Supply for Internal Loads and Gate Driver. Regulated to 4.75V if powered from DRIVE or regulated to 3.75V if powered from VIN. The INTVCC pin must be bypassed to SGND with a minimum of 4.7uF capacitor placed close (See Datasheet)", 37 SGND (power) "Signal Ground. Must be soldered directly to the signal ground plane. Connect to ground terminal of: external resistor dividers for FBX and EN/UVLO; capacitors for INTVCC, SS, and VC; and resistor RT."
part C pins: 1 NC "No Internal Connection. Leave these pins open or connect them to the adjacent pins.", 2 NC "No Internal Connection. Leave these pins open or connect them to the adjacent pins.", 3 NC "No Internal Connection. Leave these pins open or connect them to the adjacent pins.", 6 NC "No Internal Connection. Leave these pins open or connect them to the adjacent pins.", 10 NC "No Internal Connection. Leave these pins open or connect them to the adjacent pins.", 23 NC "No Internal Connection. Leave these pins open or connect them to the adjacent pins."

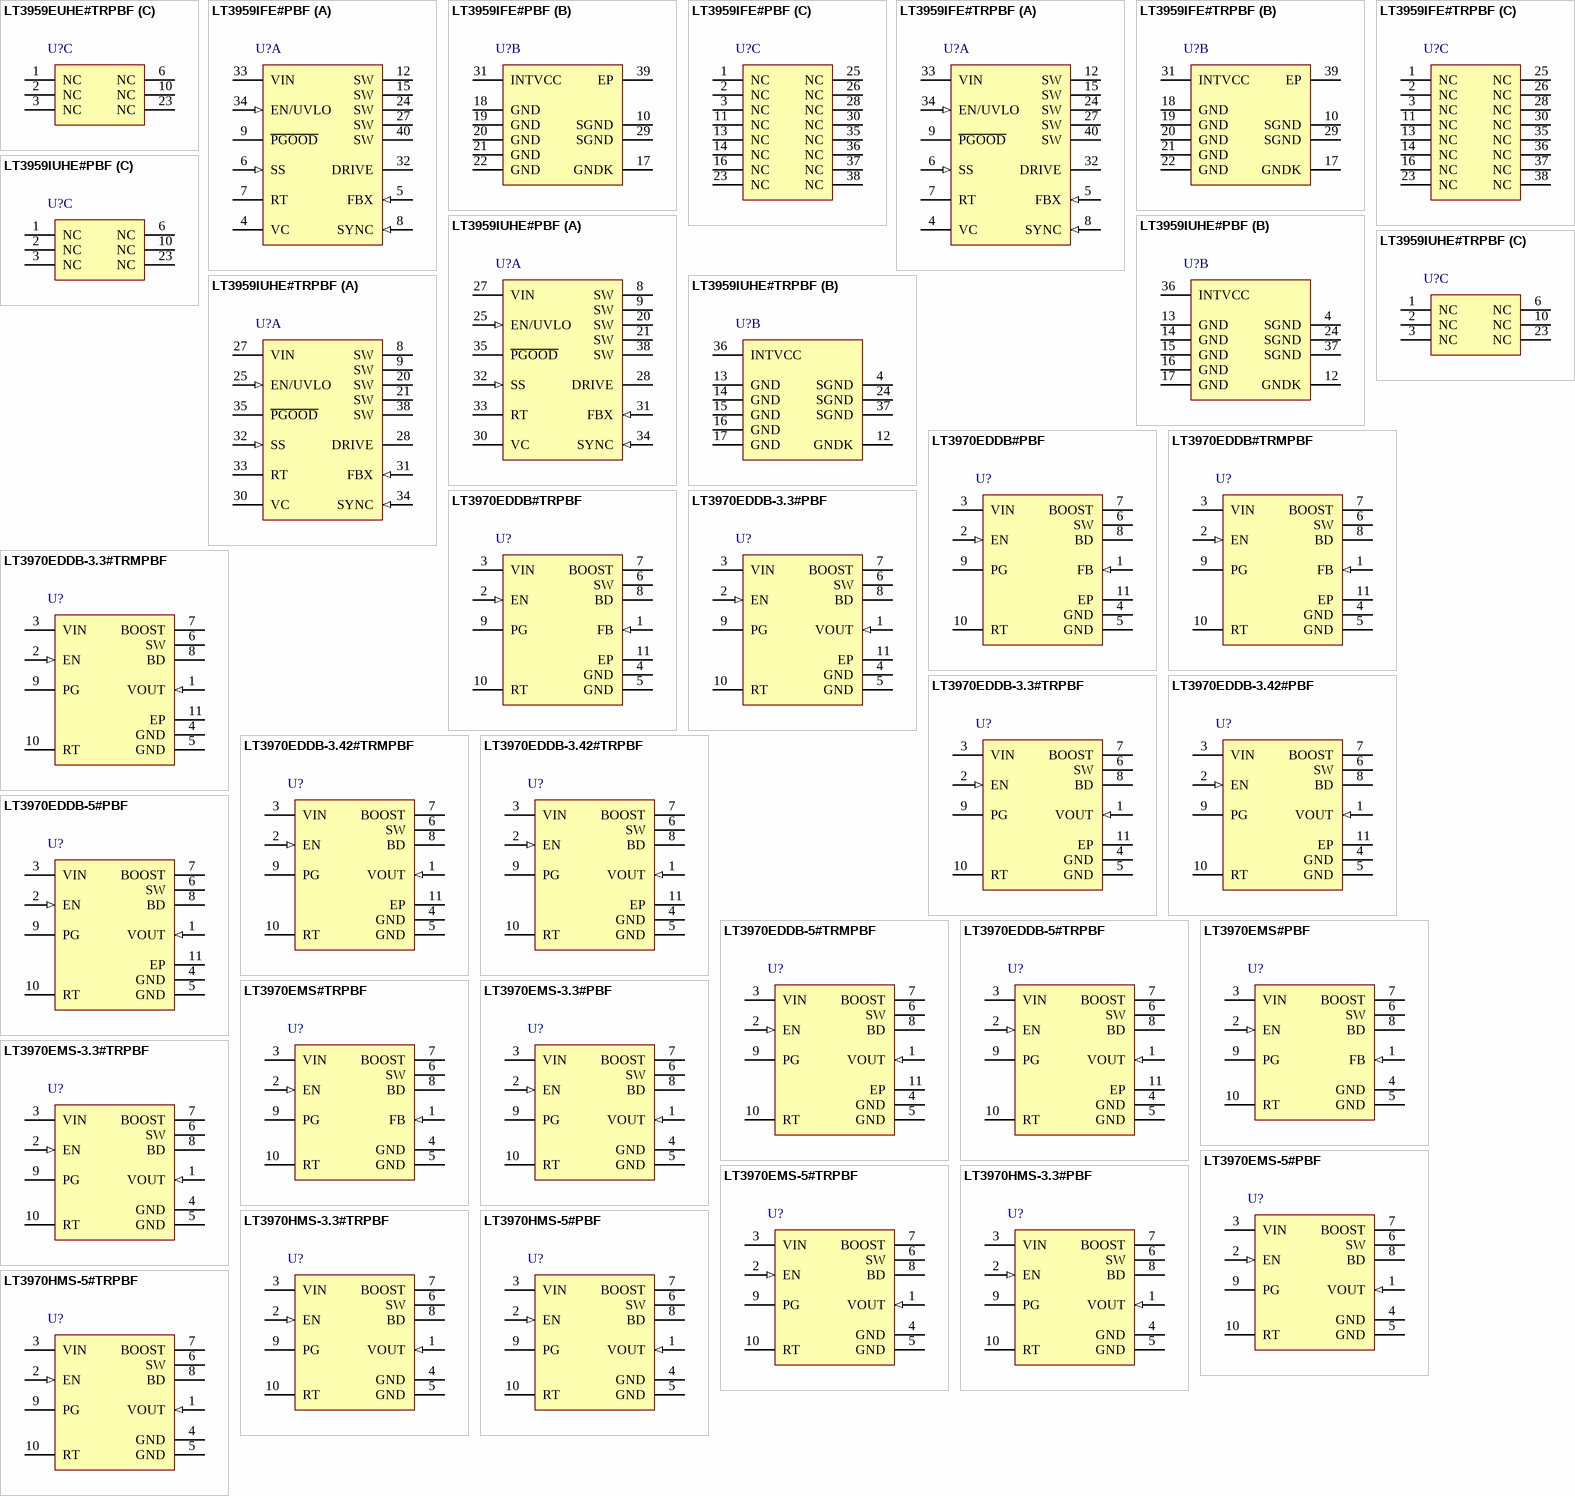
[diagram p62: symbols LT3959EUHE#TRPBF to LT3970HMS-5#TRPBF]